# Altium schematic symbol library 24AA256UID.SchLib: 1 symbol
Pins are listed as number, name and electrical type; pins without a type are passive.

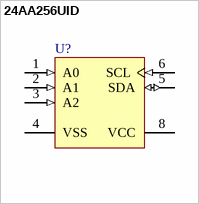
[diagram p0: symbol 24AA256UID]

## 24AA256UID
designator U?
ID: 24AA256UID-I/SN; PDF: http://www.tme.eu/pl/Document/a7d06a9be2fb1fa6c2047c8462ca83b8/24aa256uid.pdf; PRICE: 3.06 z³; BUY_LINK: http://www.tme.eu/pl/details/24aa256uid-i_sn/pamieci-eeprom-szeregowe/microchip-technology/#t6752ba2235a5ec5bb7125d5757655b98
footprint SO8
pins: 1 A0 (in), 2 A1 (in), 3 A2 (in), 4 VSS (power), 5 SDA (io), 6 SCL (in), 8 VCC (power)